# EAGLE library part ANX8770 (library video)
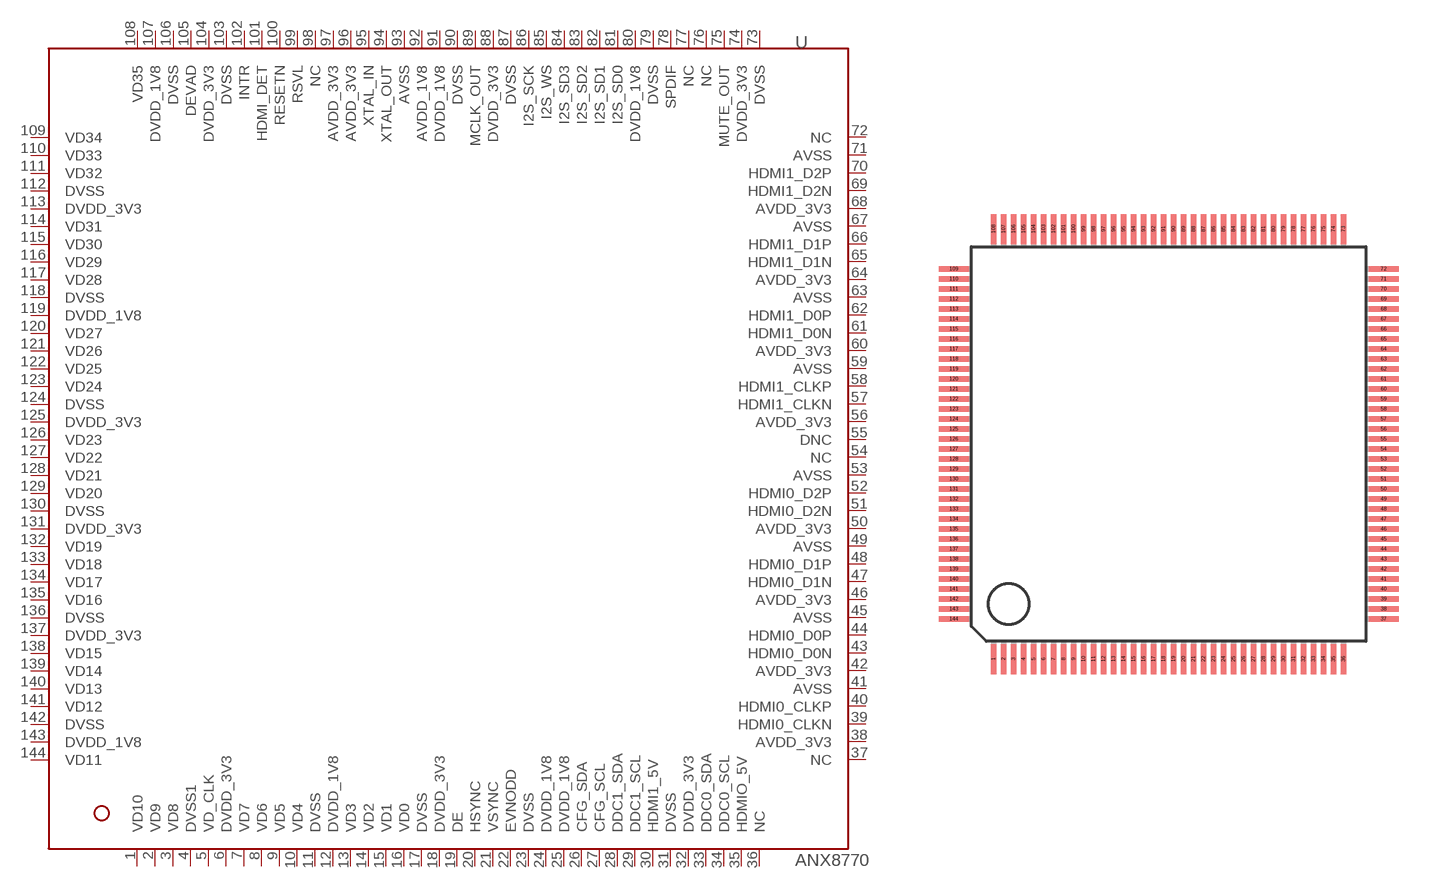
[diagram p2: symbol with the pads of TQFP144; footprint TQFP144]

Designator prefix -

## ANX8770  [TQFP144]
1  VD10
2  VD9
3  VD8
4  DVSS1
5  VD_CLK
6  DVDD_3V3
7  VD7
8  VD6
9  VD5
10  VD4
11  DVSS
12  DVDD_1V8
13  VD3
14  VD2
15  VD1
16  VD0
17  DVSS
18  DVDD_3V3
19  DE
20  HSYNC
21  VSYNC
22  EVNODD
23  DVSS
24  DVDD_1V8
25  DVDD_1V8
26  CFG_SDA
27  CFG_SCL
28  DDC1_SDA
29  DDC1_SCL
30  HDMI1_5V
31  DVSS
32  DVDD_3V3
33  DDC0_SDA
34  DDC0_SCL
35  HDMIO_5V
36  NC
37  NC
38  AVDD_3V3
39  HDMI0_CLKN
40  HDMI0_CLKP
41  AVSS
42  AVDD_3V3
43  HDMI0_D0N
44  HDMI0_D0P
45  AVSS
46  AVDD_3V3
47  HDMI0_D1N
48  HDMI0_D1P
49  AVSS
50  AVDD_3V3
51  HDMI0_D2N
52  HDMI0_D2P
53  AVSS
54  NC
55  DNC
56  AVDD_3V3
57  HDMI1_CLKN
58  HDMI1_CLKP
59  AVSS
60  AVDD_3V3
61  HDMI1_D0N
62  HDMI1_D0P
63  AVSS
64  AVDD_3V3
65  HDMI1_D1N
66  HDMI1_D1P
67  AVSS
68  AVDD_3V3
69  HDMI1_D2N
70  HDMI1_D2P
71  AVSS
72  NC
73  DVSS
74  DVDD_3V3
75  MUTE_OUT
76  NC
77  NC
78  SPDIF
79  DVSS
80  DVDD_1V8
81  I2S_SD0
82  I2S_SD1
83  I2S_SD2
84  I2S_SD3
85  I2S_WS
86  I2S_SCK
87  DVSS
88  DVDD_3V3
89  MCLK_OUT
90  DVSS
91  DVDD_1V8
92  AVDD_1V8
93  AVSS
94  XTAL_OUT
95  XTAL_IN
96  AVDD_3V3
97  AVDD_3V3
98  NC
99  RSVL
100  RESETN
101  HDMI_DET
102  INTR
103  DVSS
104  DVDD_3V3
105  DEVAD
106  DVSS
107  DVDD_1V8
108  VD35
109  VD34
110  VD33
111  VD32
112  DVSS
113  DVDD_3V3
114  VD31
115  VD30
116  VD29
117  VD28
118  DVSS
119  DVDD_1V8
120  VD27
121  VD26
122  VD25
123  VD24
124  DVSS
125  DVDD_3V3
126  VD23
127  VD22
128  VD21
129  VD20
130  DVSS
131  DVDD_3V3
132  VD19
133  VD18
134  VD17
135  VD16
136  DVSS
137  DVDD_3V3
138  VD15
139  VD14
140  VD13
141  VD12
142  DVSS
143  DVDD_1V8
144  VD11

## Footprint TQFP144 (pad centres in mm)
Thin Quad Flat Pack
smd 0.27 x 1.5: 1 -8.75,-10.75; 2 -8.25,-10.75; 3 -7.75,-10.75; 4 -7.25,-10.75; 5 -6.75,-10.75; 6 -6.25,-10.75; 7 -5.75,-10.75; 8 -5.25,-10.75; 9 -4.75,-10.75; 10 -4.25,-10.75; 11 -3.75,-10.75; 12 -3.25,-10.75; 13 -2.75,-10.75; 14 -2.25,-10.75; 15 -1.75,-10.75; 16 -1.25,-10.75; 17 -0.75,-10.75; 18 -0.25,-10.75; 19 0.25,-10.75; 20 0.75,-10.75; 21 1.25,-10.75; 22 1.75,-10.75; 23 2.25,-10.75; 24 2.75,-10.75; 25 3.25,-10.75; 26 3.75,-10.75; 27 4.25,-10.75; 28 4.75,-10.75; 29 5.25,-10.75; 30 5.75,-10.75; 31 6.25,-10.75; 32 6.75,-10.75; 33 7.25,-10.75; 34 7.75,-10.75; 35 8.25,-10.75; 36 8.75,-10.75; 73 8.75,10.75; 74 8.25,10.75; 75 7.75,10.75; 76 7.25,10.75; 77 6.75,10.75; 78 6.25,10.75; 79 5.75,10.75; 80 5.25,10.75; 81 4.75,10.75; 82 4.25,10.75; 83 3.75,10.75; 84 3.25,10.75; 85 2.75,10.75; 86 2.25,10.75; 87 1.75,10.75; 88 1.25,10.75; 89 0.75,10.75; 90 0.25,10.75; 91 -0.25,10.75; 92 -0.75,10.75; 93 -1.25,10.75; 94 -1.75,10.75; 95 -2.25,10.75; 96 -2.75,10.75; 97 -3.25,10.75; 98 -3.75,10.75; 99 -4.25,10.75; 100 -4.75,10.75; 101 -5.25,10.75; 102 -5.75,10.75; 103 -6.25,10.75; 104 -6.75,10.75; 105 -7.25,10.75; 106 -7.75,10.75; 107 -8.25,10.75; 108 -8.75,10.75
smd 1.5 x 0.27: 37 10.75,-8.75; 38 10.75,-8.25; 39 10.75,-7.75; 40 10.75,-7.25; 41 10.75,-6.75; 42 10.75,-6.25; 43 10.75,-5.75; 44 10.75,-5.25; 45 10.75,-4.75; 46 10.75,-4.25; 47 10.75,-3.75; 48 10.75,-3.25; 49 10.75,-2.75; 50 10.75,-2.25; 51 10.75,-1.75; 52 10.75,-1.25; 53 10.75,-0.75; 54 10.75,-0.25; 55 10.75,0.25; 56 10.75,0.75; 57 10.75,1.25; 58 10.75,1.75; 59 10.75,2.25; 60 10.75,2.75; 61 10.75,3.25; 62 10.75,3.75; 63 10.75,4.25; 64 10.75,4.75; 65 10.75,5.25; 66 10.75,5.75; 67 10.75,6.25; 68 10.75,6.75; 69 10.75,7.25; 70 10.75,7.75; 71 10.75,8.25; 72 10.75,8.75; 109 -10.75,8.75; 110 -10.75,8.25; 111 -10.75,7.75; 112 -10.75,7.25; 113 -10.75,6.75; 114 -10.75,6.25; 115 -10.75,5.75; 116 -10.75,5.25; 117 -10.75,4.75; 118 -10.75,4.25; 119 -10.75,3.75; 120 -10.75,3.25; 121 -10.75,2.75; 122 -10.75,2.25; 123 -10.75,1.75; 124 -10.75,1.25; 125 -10.75,0.75; 126 -10.75,0.25; 127 -10.75,-0.25; 128 -10.75,-0.75; 129 -10.75,-1.25; 130 -10.75,-1.75; 131 -10.75,-2.25; 132 -10.75,-2.75; 133 -10.75,-3.25; 134 -10.75,-3.75; 135 -10.75,-4.25; 136 -10.75,-4.75; 137 -10.75,-5.25; 138 -10.75,-5.75; 139 -10.75,-6.25; 140 -10.75,-6.75; 141 -10.75,-7.25; 142 -10.75,-7.75; 143 -10.75,-8.25; 144 -10.75,-8.75